# Altium footprint library power_chip.PcbLib: 12 footprints
Each footprint in its own frame and in the unit in brackets; x right, y up, seen from the top. Pads: shape width x height; smd on the part's side, far side on the other; paste and mask are expansions set on the pad; w line width, h text height; cw(c..) or ccw(c..) is an arc to the next point about the centre after c.
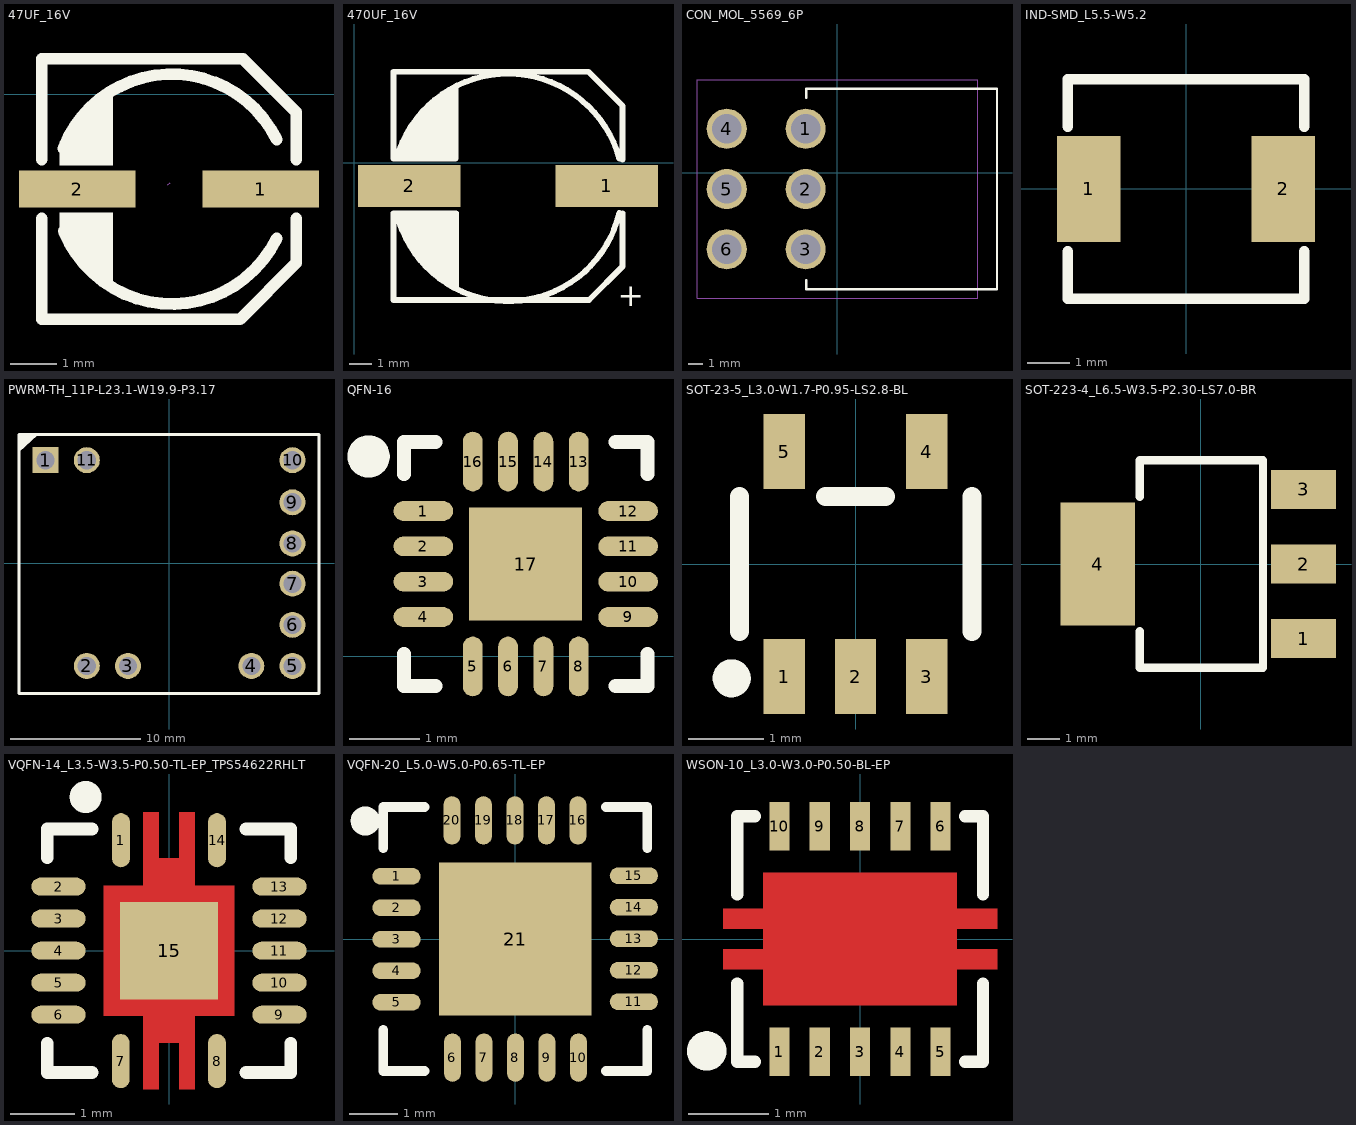
[diagram p0: the footprints below, top view; thin cyan lines are the x and y axes]

## 47UF_16V [mm]
pads (2):
  rect 2.5x0.8 smd: 1(7.6,-2.032) 2(3.663,-2.032)
Top Overlay:
  region: 4.425,-4.064 4.425,-2.54 3.282,-2.54 3.282,-3.048 4.298,-4.064
  region: 4.425,0 4.425,-1.524 3.282,-1.524 3.282,-1.016 4.298,0
  lines w0.254: 2.901,-2.667 2.901,-4.826 7.155,-4.826 8.362,-3.619 8.362,-2.667 ; 2.901,-1.397 2.901,0.762 7.219,0.762 8.362,-0.381 8.362,-1.397 ; 3.363,-1.163 cw(c5.695,-2.066) 7.943,-0.973 ; 3.376,-2.936 ccw(c5.694,-1.999) 7.943,-3.091
Mechanical 15:
  lines w0.003: 5.606,-1.944 5.657,-1.894

## 470UF_16V [mm]
pads (2):
  rect 4.5x1.85 smd: 1(11.063,-1.016) 2(2.413,-1.016)
Top Overlay:
  lines w0.254: 1.856,0.186 cw(c6.738,-1.166) 11.624,0.173 ; 1.874,-2.255 ccw(c6.738,-1.066) 11.614,-2.206 ; 2.013,0.209 2.313,0.759 2.513,1.209 3.088,2.034 3.813,2.709 4.288,3.059 4.263,0.359 2.338,0.334 2.738,1.234 3.463,2.084 4.088,2.709 4.038,0.509 2.638,0.484 3.213,1.609 3.963,2.334 3.838,0.659 2.988,0.634 2.938,0.659 3.463,1.709 3.763,1.984 3.663,0.809 3.188,0.809 3.563,1.609 3.463,0.984 ; 2.088,-2.416 4.263,-2.416 4.263,-5.266 3.188,-4.416 2.863,-3.941 2.313,-2.991 2.188,-2.541 4.088,-2.616 4.113,-4.916 3.313,-4.291 2.413,-2.716 3.888,-2.816 3.938,-4.566 3.413,-4.141 2.788,-2.866 2.688,-2.841 3.713,-2.991 3.788,-4.141 3.763,-4.266 3.513,-4.066 3.088,-3.041 3.463,-3.116 3.663,-4.041 3.313,-3.366 3.313,-3.216 ; 4.438,3.284 4.438,0.184 1.713,0.184 1.713,3.984 10.263,3.984 11.763,2.484 11.763,0.134 ; 4.463,-5.416 4.463,-2.216 1.713,-2.216 1.713,-6.016 10.288,-6.016 11.763,-4.541 11.763,-2.216
  text "+" at 11.538,-6.291 h1

## CON_MOL_5569_6P [mil] "CON_MOL_5569_6P"
pads (6):
  round 110 hole 80: 1(-86.73,120.82) 2(-86.73,-44.53) 3(-86.73,-209.88) 4(-303.27,120.82) 5(-303.27,-44.53) 6(-303.27,-209.88)
Top Overlay:
  lines w6: -85,-294.53 -85,-319.53 438.25,-319.53 438.25,230.47 -85,230.47 -85,205.47
Mechanical 11:
  text "1" at -99.13,120.82 h31
  text "3" at -99.13,-209.88 h31
  text "2" at -99.13,-44.53 h31
  text "4" at -315.67,120.82 h31
  text "5" at -315.67,-44.53 h31
  text "6" at -315.67,-209.88 h31
Mechanical 13:
  lines w1: -385,-344.53 -385,255.47 385,255.47 385,-344.53 -385,-344.53

## IND-SMD_L5.5-W5.2 [mm]
pads (2):
  rect 1.5x2.5 smd: 1(-2.3,0) 2(2.3,0)
Top Overlay:
  lines w0.254: -2.8,-1.481 -2.8,-2.6 2.8,-2.6 2.8,-1.481 ; -2.8,1.481 -2.8,2.6 2.8,2.6 2.8,1.481

## PWRM-TH_11P-L23.1-W19.9-P3.17 [mm]
pads (11):
  rect 2x2 hole 1.4: 1(-9.51,7.925)
  round 2 hole 1.4: 2(-6.34,-7.925) 3(-3.17,-7.925) 4(6.34,-7.925) 5(9.51,-7.925) 6(9.51,-4.755) 7(9.51,-1.585) 8(9.505,1.515) 9(9.505,4.685) 10(9.51,7.925) 11(-6.34,7.925)
Top Overlay:
  region: -11.562,9.836 -11.562,8.566 -10.165,9.836
  lines w0.254: -11.56,-10.04 -11.56,9.9 11.55,9.9 11.55,-10.04 -11.56,-10.04

## QFN-16 [mm]
pads (17):
  oval 0.846x0.28 smd: 1(1.714,2.055) 2(1.714,1.555) 3(1.714,1.055) 4(1.714,0.555) 9(4.614,0.555) 10(4.614,1.055) 11(4.614,1.555) 12(4.614,2.055)
  oval 0.28x0.846 smd: 5(2.414,-0.145) 6(2.914,-0.145) 7(3.414,-0.145) 8(3.914,-0.145) 13(3.914,2.755) 14(3.414,2.755) 15(2.914,2.755) 16(2.414,2.755)
  rect 1.6x1.6 smd: 17(3.164,1.305)
Top Overlay:
  lines w0.2: 1.439,0.03 1.439,-0.42 1.889,-0.42 ; 1.439,2.58 1.439,3.03 1.889,3.03 ; 4.439,-0.42 4.889,-0.42 4.889,0.03 ; 4.439,3.03 4.889,3.03 4.889,2.58
  lines w0.3: 1.089,2.826 cw(c0.939,2.827) 1.089,2.829

## SMD_5*5*3 [mm]

## SOT-23-5_L3.0-W1.7-P0.95-LS2.8-BL [mm]
pads (5):
  rect 0.55x1 smd: 1(-0.95,-1.5) 2(0,-1.5) 3(0.95,-1.5) 4(0.95,1.5) 5(-0.95,1.5)
Top Overlay:
  circle w0.254: c-1.651,-1.524 r0.127
  lines w0.254: -1.55,-0.9 -1.55,0.9 ; -0.4,0.9 0.4,0.9 ; 1.55,-0.9 1.55,0.9

## SOT-223-4_L6.5-W3.5-P2.30-LS7.0-BR [mm]
pads (4):
  rect 2x1.2 smd: 1(3.175,-2.3) 2(3.175,0) 3(3.175,2.3)
  rect 2.3x3.8 smd: 4(-3.175,0)
Top Overlay:
  lines w0.254: -1.875,-2.075 -1.875,-3.2 1.925,-3.2 1.925,3.2 -1.875,3.2 -1.875,2.075

## VQFN-14_L3.5-W3.5-P0.50-TL-EP_TPS54622RHLT [mm]
pads (15):
  oval 0.28x0.846 smd: 1(-0.75,1.725) 7(-0.753,-1.725) 8(0.75,-1.725) 14(0.75,1.725)
  oval 0.846x0.28 smd: 2(-1.725,1) 3(-1.725,0.5) 4(-1.725,0) 5(-1.725,-0.5) 6(-1.725,-1) 9(1.725,-1) 10(1.725,-0.5) 11(1.725,0) 12(1.725,0.5) 13(1.725,1)
  rect 1.524x1.524 smd: 15(0,0)
Top Layer:
  region: -1.016,1.016 -0.4,1.016 -0.4,2.16 -0.16,2.16 -0.16,1.44 0.16,1.44 0.16,2.16 0.4,2.16 0.4,1.016 1.016,1.016 1.016,-1.016 0.4,-1.016 0.4,-2.16 0.16,-2.16 0.16,-1.44 -0.16,-1.44 -0.16,-2.16 -0.4,-2.16 -0.4,-1.016 -1.016,-1.016
Top Overlay:
  lines w0.2: -1.9,-1.45 -1.9,-1.9 -1.2,-1.9 ; -1.9,1.45 -1.9,1.9 -1.2,1.9 ; 1.2,-1.9 1.9,-1.9 1.9,-1.45 ; 1.2,1.9 1.9,1.9 1.9,1.45
  lines w0.25: -1.176,2.398 cw(c-1.301,2.399) -1.176,2.4
Top Paste:
  region: -1.016,1.016 -0.4,1.016 -0.4,2.16 -0.16,2.16 -0.16,1.44 0.16,1.44 0.16,2.16 0.4,2.16 0.4,1.016 1.016,1.016 1.016,-1.016 0.4,-1.016 0.4,-2.16 0.16,-2.16 0.16,-1.44 -0.16,-1.44 -0.16,-2.16 -0.4,-2.16 -0.4,-1.016 -1.016,-1.016
Top Solder:
  region: -1.016,1.016 -0.4,1.016 -0.4,2.16 -0.16,2.16 -0.16,1.44 0.16,1.44 0.16,2.16 0.4,2.16 0.4,1.016 1.016,1.016 1.016,-1.016 0.4,-1.016 0.4,-2.16 0.16,-2.16 0.16,-1.44 -0.16,-1.44 -0.16,-2.16 -0.4,-2.16 -0.4,-1.016 -1.016,-1.016

## VQFN-20_L5.0-W5.0-P0.65-TL-EP [mm]
pads (21):
  oval 0.996x0.35 smd: 1(-2.45,1.295) 2(-2.45,0.645) 3(-2.45,-0.005) 4(-2.45,-0.655) 5(-2.45,-1.306) 11(2.45,-1.295) 12(2.45,-0.645) 13(2.45,0.005) 14(2.45,0.655) 15(2.45,1.306)
  oval 0.35x0.996 smd: 6(-1.295,-2.45) 7(-0.645,-2.45) 8(0.005,-2.45) 9(0.655,-2.45) 10(1.306,-2.45) 16(1.295,2.45) 17(0.645,2.45) 18(-0.005,2.45) 19(-0.655,2.45) 20(-1.306,2.45)
  rect 3.15x3.15 smd: 21(0,0)
Top Overlay:
  lines w0.2: -2.725,-1.875 -2.725,-2.725 -1.875,-2.725 ; -2.725,1.875 -2.725,2.725 -1.875,2.725 ; 1.875,-2.725 2.725,-2.725 2.725,-1.875 ; 1.875,2.725 2.725,2.725 2.725,1.875
  lines w0.3: -2.946,2.436 cw(c-3.096,2.437) -2.946,2.438
Top Paste:
  region: -0.15,1.45 -0.15,0.15 -1.45,0.15 -1.45,1.45
  region: -1.45,-1.45 -1.45,-0.15 -0.15,-0.15 -0.15,-1.45
  region: 0.15,-1.45 0.15,-0.15 1.45,-0.15 1.45,-1.45
  region: 1.45,1.45 1.45,0.15 0.15,0.15 0.15,1.45

## WSON-10_L3.0-W3.0-P0.50-BL-EP [mm]
pads (10):
  rect 0.25x0.6 smd: 1(-1.001,-1.4) 2(-0.5,-1.4) 3(0,-1.4) 4(0.5,-1.4) 5(1.001,-1.4) 6(1.001,1.4) 7(0.5,1.4) 8(0,1.4) 9(-0.5,1.4) 10(-1.001,1.4)
Top Layer:
  region: -1.7,-0.125 -1.2,-0.125 -1.2,0.125 -1.7,0.125 -1.7,0.375 -1.2,0.375 -1.2,0.825 1.2,0.825 1.2,0.375 1.7,0.375 1.7,0.125 1.2,0.125 1.2,-0.125 1.7,-0.125 1.7,-0.375 1.2,-0.375 1.2,-0.825 -1.2,-0.825 -1.2,-0.375 -1.7,-0.375
Top Overlay:
  lines w0.15: -1.524,-0.554 -1.524,-1.524 -1.305,-1.524 ; -1.524,0.554 -1.524,1.524 -1.305,1.524 ; 1.305,-1.524 1.524,-1.524 1.524,-0.554 ; 1.305,1.524 1.524,1.524 1.524,0.554
  lines w0.25: -1.905,-1.27 ccw(c-1.904,-1.39) -1.902,-1.27
Top Paste:
  region: -1.7,-0.125 -1.2,-0.125 -1.2,0.125 -1.7,0.125 -1.7,0.375 -1.2,0.375 -1.2,0.825 1.2,0.825 1.2,0.375 1.7,0.375 1.7,0.125 1.2,0.125 1.2,-0.125 1.7,-0.125 1.7,-0.375 1.2,-0.375 1.2,-0.825 -1.2,-0.825 -1.2,-0.375 -1.7,-0.375
Top Solder:
  region: -1.7,-0.125 -1.2,-0.125 -1.2,0.125 -1.7,0.125 -1.7,0.375 -1.2,0.375 -1.2,0.825 1.2,0.825 1.2,0.375 1.7,0.375 1.7,0.125 1.2,0.125 1.2,-0.125 1.7,-0.125 1.7,-0.375 1.2,-0.375 1.2,-0.825 -1.2,-0.825 -1.2,-0.375 -1.7,-0.375